# Altium schematic symbol library TCU1-K_1.SCHLIB: 25 symbols
Pins are listed as number, name and electrical type; pins without a type are passive.

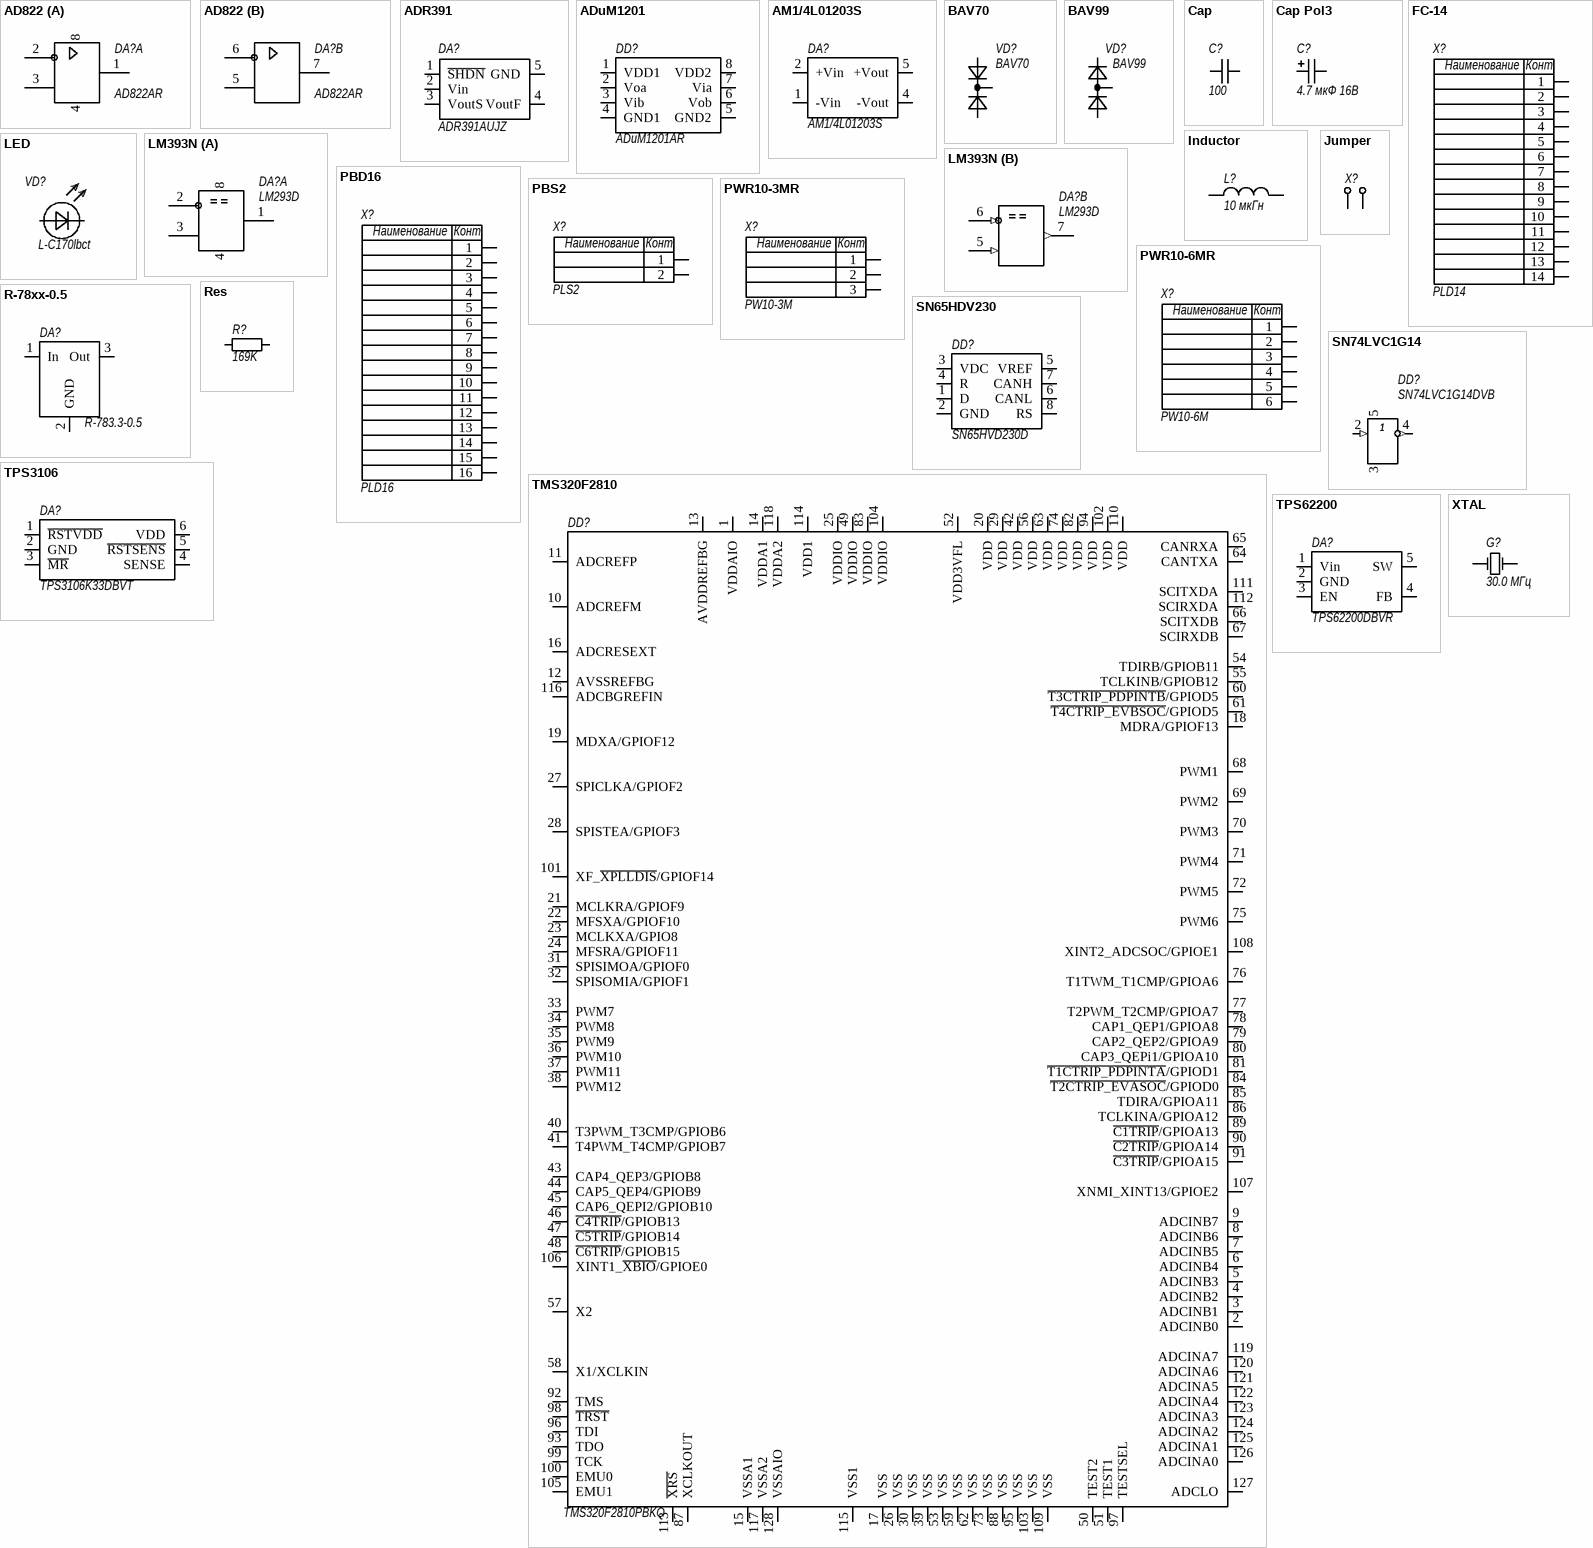
[diagram p0: symbols AD822 to XTAL]

## AD822
designator DA?, comment AD822AR
Сдвоеный операционный усилитель; Outcoment: AD822AR
footprint DIP-8
footprint SO8 (Small Outline; 8 Leads; Body Width 3.9 mm; Pitch 1.27 mm)
3D model new-so-8 (PCB3D Model)
part A pins: 1, 2, 3, 4 (power), 8 (power)
part B pins: 5, 6, 7

## ADR391
designator DA?, comment ADR391AUJZ
Источник опроного напряжения; Outcoment: ADR391AUJZ
footprint SO-G5/P.95
pins: 1 ~{SHDN}, 2 Vin (power), 3 VoutS, 4 VoutF, 5 GND (power)

## ADuM1201
designator DD?, comment ADuM1201AR
Гальваническая развязка; Outcoment: ADuM1201AR
footprint SO8 (Small Outline; 8 Leads; Body Width 3.9 mm; Pitch 1.27 mm)
3D model new-so-8 (PCB3D Model)
pins: 1 VDD1 (power), 2 Voa, 3 Vib, 4 GND1 (power), 5 GND2 (power), 6 Vob (power), 7 Via, 8 VDD2 (power)

## AM1/4L01203S
designator DA?
Outcoment: AM1/4L-1203S-N
footprint AM1/4L
pins: 1 -Vin (power), 2 +Vin (power), 4 -Vout, 5 +Vout

## BAV70
designator VD?
Два диода; Outcoment: BAV70
footprint SO-G3
3D model SOT-23 (PCB3D Model)
pins: 1 A1, 2 A2, 3 CK

## BAV99
designator VD?
Два диода; Outcoment: BAV99
3D model SOT-23 (PCB3D Model)
pins: 1 A, 2 K, 3 Comon connet

## Cap
designator C?, comment 100
Чип конденсаторы; Value: 20000pF; Outcoment: CERCAP 0603 NPO 100 пкФ 50В; Published: 8-Jun-2000; Revision: July-2002: Re-released for DXP Platform.; Publisher: Altium Limited; Coment: 100
simulation model CAP (Capacitor)
signal-integrity model Cap
footprint CC1005-0402
footprint CC1608-0603
footprint CC2012-0805
pins: 1, 2

## Cap Pol3
designator C?, comment 4.7 мкФ 16В
Танталовые Чип конденсаторы; Value: 100pF; Outcoment: TCAP A 4.7 мкФ 16В; Published: 8-Jun-2000; Revision: July-2002: Re-released for DXP Platform.; Publisher: Altium Limited; Coment: 4.7 мкФ 16В
footprint TC2013-0805 (Capacitor, SM Tantalum; Body 2.0 x 1.3 mm (LxW typ))
simulation model CAP (Capacitor)
signal-integrity model Cap Pol
footprint TC3216-1206 (Capacitor, SM Tantalum; Body 3.2 x 1.6 mm (LxW typ))
footprint TC6032-2412 (Capacitor, SM Tantalum; Body 6.0 x 3.2 mm (LxW typ))
footprint TC7343-2917 (Capacitor, SM Tantalum; Body 7.3 x 4.3 mm (LxW typ))
footprint TC3528-1411 (Capacitor, SM Tantalum; Body 3.5 x 2.8 mm (LxW typ))
pins: 1, 2

## FC-14
designator X?, comment PLD14
Гнездо на плоский кабель; Outcoment: Вилка PLD14-G
footprint HDR2X7 (Connector; Header; 7x2 Position)
pins: 1, 2, 3, 4, 5, 6, 7, 8, 9, 10, 11, 12, 13, 14
text: Наименование; Конт.

## Inductor
designator L?, comment 10 мкГн
Inductor; Outcoment: CDRH5D28-100NC; Published: 8-Jun-2000; Revision: July-2002: Re-released for DXP Platform.; Publisher: Altium Limited; Value: 10 мкГн
footprint C1005-0402 (Inductor; 2 Leads)
simulation model INDUCTOR (Inductor)
signal-integrity model Inductor
footprint CDRH5D28
pins: 1, 2

## Jumper
designator X?  (value not drawn)
Разъем для перемычки; Outcoment: Вилка PLS2-G; Published: 16.02.2009; Package Reference: HDR1X2; Publisher: IMTP FEB RAS
footprint HDR1X2
pins: 1, 2

## LED
designator VD?, comment L-C170lbct
Свето-диод СМД; Revision 1: Jul-2002: Re-released for DXP Platform.; Revision 2: 17-Dec-2003: PCB Footprint replaced.; Published: 8-Jun-2000; Publisher: Altium Limited; Outcoment: L-C170lbct
footprint SMD _LED (SMT LED; 2 Leads)
simulation model LED3 (Diode)
footprint CC2012-0805
pins: 1 A, 2 K

## LM393N
designator DA?, comment LM293D
Low-Power Low Offset Voltage Dual Comparator; Package Information: Latest Revision: Sep-1997; Published: 15-Apr-2002; Datasheet: Latest Revision: Oct-1999; Package Reference: N08E; Publisher: Altium Limited; Outcoment: LM293D
footprint DIP-8
footprint SO8 (Small Outline; 8 Leads; Body Width 3.9 mm; Pitch 1.27 mm)
3D model new-so-8 (PCB3D Model)
part A pins: 1, 2, 3, 4 (power), 8 (power)
part B pins: 5 IN+ (in), 6 IN- (in), 7 OUT (out)

## PBD16
designator X?, comment PLD16
Разъем PBD16; Outcoment: Вилка PLD16-G
footprint HDR2X8 (Connector; Header; 8x2 Position)
pins: 1, 2, 3, 4, 5, 6, 7, 8, 9, 10, 11, 12, 13, 14, 15, 16
text: Наименование; Конт.

## PBS2
designator X?, comment PLS2
Генездо однорядное шаг 2.54; Outcoment: Вилка PLS2-G
footprint HDR1X2 (Connector; Header; 2 Position)
pins: 1, 2
text: Наименование; Конт.

## PWR10-3MR
designator X?, comment PW10-3M
Белая вилка на плату прямой угол; Outcoment: Вилка PW10-3M
footprint PW10-3M
pins: 1, 2, 3
text: Наименование; Конт.

## PWR10-6MR
designator X?, comment PW10-6M
Белая вилка на плату прямой угол; Outcoment: Вилка PW10-6M
footprint PW10-6M
footprint PW10-6M
pins: 1, 2, 3, 4, 5, 6
text: Наименование; Конт.

## R-78xx-0.5
designator DA?, comment R-783.3-0.5
Импульсный аналог 78xx; Outcoment: R-783.3-0.5
footprint R78xx
pins: 1 In, 2 GND, 3 Out

## Res
designator R?, comment 169K
Чип резистор; Outcoment: 0603 5% 160 КОм; Published: 8-Jun-2000; Revision: July-2002: Re-released for DXP Platform.; Publisher: Altium Limited; Value: 169K
simulation model RESISTOR (Resistor)
signal-integrity model Res
footprint CR1608-0603
footprint CR2012-0805
footprint CR6332-2512
3D model 0603 (PCB3D Model)
pins: 1, 2
1 alternate drawing of the same symbol

## SN65HDV230
designator DD?, comment SN65HVD230D
Outcoment: SN65HVD230D
footprint SO8 (Small Outline; 8 Leads; Body Width 3.9 mm; Pitch 1.27 mm)
3D model new-so-8 (PCB3D Model)
pins: 1 D, 2 GND, 3 VDC, 4 R, 5 VREF, 6 CANL, 7 CANH, 8 RS

## SN74LVC1G14
designator DD?, comment SN74LVC1G14DVB
Outcoment: SN74LVC1G14DVB
footprint SO-G5/P.95
pins: 2 (in), 3 (power), 4 (out), 5 (power)
text: 1

## TMS320F2810
designator DD?, comment TMS320F2810PBKQ
Outcoment: TMS320F2810PBKQ
footprint F-QFP14x14-G128/N
pins: 1 VDDAIO, 2 ADCINB0, 3 ADCINB1, 4 ADCINB2, 5 ADCINB3, 6 ADCINB4, 7 ADCINB5, 8 ADCINB6, 9 ADCINB7, 10 ADCREFM, 11 ADCREFP, 12 AVSSREFBG, 13 AVDDREFBG, 14 VDDA1, 15 VSSA1, 16 ADCRESEXT, 17 VSS, 18 MDRA/GPIOF13, 19 MDXA/GPIOF12, 20 VDD, 21 MCLKRA/GPIOF9, 22 MFSXA/GPIOF10, 23 MCLKXA/GPIO8, 24 MFSRA/GPIOF11, 25 VDDIO, 26 VSS, 27 SPICLKA/GPIOF2, 28 SPISTEA/GPIOF3, 29 VDD, 30 VSS, 31 SPISIMOA/GPIOF0, 32 SPISOMIA/GPIOF1, 33 PWM7, 34 PWM8, 35 PWM9, 36 PWM10, 37 PWM11, 38 PWM12, 39 VSS, 40 T3PWM_T3CMP/GPIOB6, 41 T4PWM_T4CMP/GPIOB7, 42 VDD, 43 CAP4_QEP3/GPIOB8, 44 CAP5_QEP4/GPIOB9, 45 CAP6_QEPI2/GPIOB10, 46 ~{C4TRIP}/GPIOB13, 47 ~{C5TRIP}/GPIOB14, 48 ~{C6TRIP}/GPIOB15, 49 VDDIO, 50 TEST2, 51 TEST1, 52 VDD3VFL, 53 VSS, 54 TDIRB/GPIOB11, 55 TCLKINB/GPIOB12, 56 VDD, 57 X2, 58 X1/XCLKIN, 59 VSS, 60 ~{T3CTRIP_PDPINTB}/GPIOD5, 61 ~{T4CTRIP_EVBSOC}/GPIOD5, 62 VSS, 63 VDD, 64 CANTXA, 65 CANRXA, 66 SCITXDB, 67 SCIRXDB, 68 PWM1, 69 PWM2, 70 PWM3, 71 PWM4, 72 PWM5, 73 VSS, 74 VDD, 75 PWM6, 76 T1TWM_T1CMP/GPIOA6, 77 T2PWM_T2CMP/GPIOA7, 78 CAP1_QEP1/GPIOA8, 79 CAP2_QEP2/GPIOA9, 80 CAP3_QEPi1/GPIOA10, 81 ~{T1CTRIP_PDPINTA}/GPIOD1, 82 VDD, 83 VDDIO, 84 ~{T2CTRIP_EVASOC}/GPIOD0, 85 TDIRA/GPIOA11, 86 TCLKINA/GPIOA12, 87 XCLKOUT, 88 VSS, 89 ~{C1TRIP}/GPIOA13, 90 ~{C2TRIP}/GPIOA14, 91 ~{C3TRIP}/GPIOA15, 92 TMS, 93 TDO, 94 VDD, 95 VSS, 96 TDI, 97 TESTSEL, 98 ~{TRST}, 99 TCK, 100 EMU0, 101 XF_~{XPLLDIS}/GPIOF14, 102 VDD, 103 VSS, 104 VDDIO, 105 EMU1, 106 XINT1_~{XBIO}/GPIOE0, 107 XNMI_XINT13/GPIOE2, 108 XINT2_ADCSOC/GPIOE1, 109 VSS, 110 VDD, 111 SCITXDA, 112 SCIRXDA, 113 ~{XRS}, 114 VDD1, 115 VSS1, 116 ADCBGREFIN, 117 VSSA2, 118 VDDA2, 119 ADCINA7, 120 ADCINA6, 121 ADCINA5, 122 ADCINA4, 123 ADCINA3, 124 ADCINA2, 125 ADCINA1, 126 ADCINA0, 127 ADCLO, 128 VSSAIO

## TPS3106
designator DA?, comment TPS3106K33DBVT
Outcoment: TPS3106K33DBVT
footprint SO-G6/P.95
pins: 1 ~{RSTVDD}, 2 GND, 3 ~{MR}, 4 SENSE, 5 ~{RSTSENS}, 6 VDD

## TPS62200
designator DA?, comment TPS62200DBVR
Outcoment: TPS62200DBVR
footprint SO-G5/P.95
pins: 1 Vin, 2 GND, 3 EN, 4 FB, 5 SW

## XTAL
designator G?, comment 30.0 МГц
Кварцевый резонатор; Outcoment: GEYER KX-3H 30 МГц; Published: 8-Jun-2000; Revision: July-2002: Re-released for DXP Platform.; Publisher: Altium Limited
footprint BCY-W2/D3.1 (Crystal, Thru-Hole; 2 Leads; Body 3.1 x 8.2 mm (Dia.xH))
simulation model XTAL (Spice Subcircuit)
footprint BCY-W2/E4.7
pins: 1 OSC1, 2 OSC2